# Altium footprint library Hall_Sensor_Pcb.PcbLib: 1 footprints
Each footprint in its own frame and in the unit in brackets; x right, y up, seen from the top. Pads: shape width x height; smd on the part's side, far side on the other; paste and mask are expansions set on the pad; w line width, h text height; cw(c..) or ccw(c..) is an arc to the next point about the centre after c.
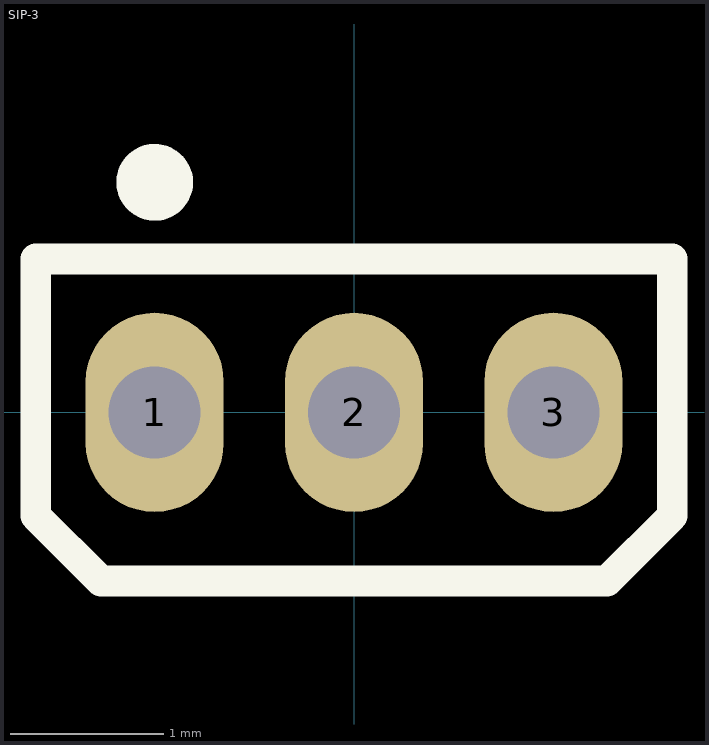
[diagram p0: the footprint, top view; thin cyan lines are the x and y axes]

## SIP-3 [mm]
pads (3):
  oval 0.9x1.3 hole 0.6: 1(-1.3,0) 2(0,0) 3(1.3,0)
Top Overlay:
  circle w0.3: c-1.3,1.5 r0.1
  lines w0.2: -2.075,-0.675 -1.65,-1.1 1.65,-1.1 2.075,-0.675 2.075,-0.65 2.075,1 -2.075,1 -2.075,-0.675
3D body "User Library-UA SIP model.step": height 8.11, standoff -1.5, extent -2.085,-0.57 2.085,1